# Altium integrated library Sensor humedad.IntLib: 1 symbol
Pins are listed as number, name and electrical type; pins without a type are passive.

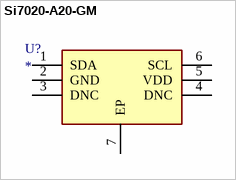
[diagram p0: symbol Si7020-A20-GM]

## Si7020-A20-GM
designator U?
datasheet: https://www.mouser.es/datasheet/2/368/Si7020-A20-1397999.pdf; ComponentLink1Description: mouser; ComponentLink1URL: https://www.mouser.es/ProductDetail/Silicon-Labs/SI7020-A20-GM?qs=p9T7GgSe1IHq5hFdDuJGig%3D%3D
footprint SON100P300X300X80-7N-D
pins: 1 SDA, 2 GND, 3 DNC, 4 DNC, 5 VDD, 6 SCL, 7 EP